# Altium footprint library FPGA_MG.PcbLib: 34 footprints (part 2 of 4)
Each footprint in its own frame and in the unit in brackets; x right, y up, seen from the top. Pads: shape width x height; smd on the part's side, far side on the other; paste and mask are expansions set on the pad; w line width, h text height; cw(c..) or ccw(c..) is an arc to the next point about the centre after c.
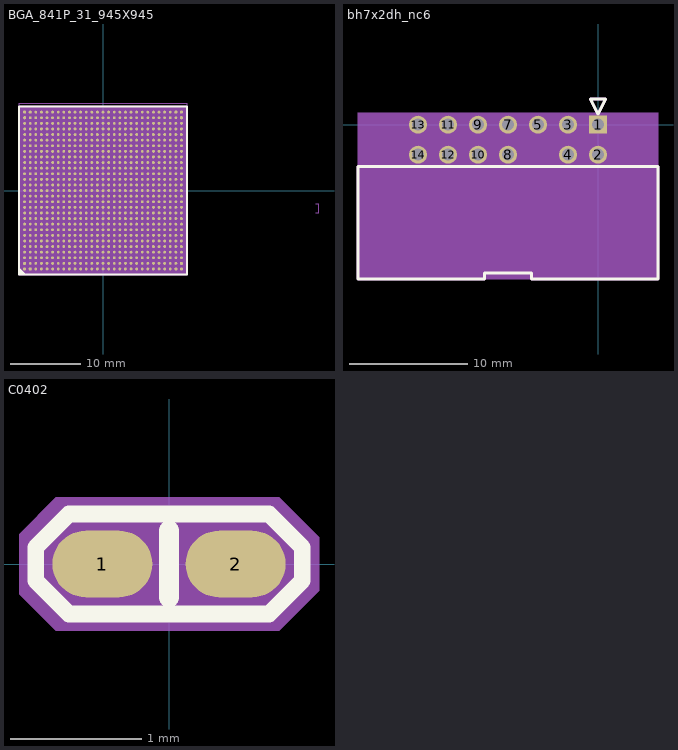
[diagram p1: the footprints below, top view; thin cyan lines are the x and y axes]

## BGA_841P_31_945X945 [mil] "BGA_841P_31_945X945"
pads (841):
  round 18 smd: A1(-440.94,-440.94) A2(-440.94,-409.45) A28(-440.94,409.45) A29(-440.94,440.94) AH1(409.45,-440.94) AH29(409.45,440.94) AJ1(440.94,-440.94) AJ2(440.94,-409.45) AJ28(440.94,409.45) AJ29(440.94,440.94) B1(-409.45,-440.94) B29(-409.45,440.94)
  round 16 smd: A3(-440.94,-377.95) A4(-440.94,-346.46) A5(-440.94,-314.96) A6(-440.94,-283.46) A7(-440.94,-251.97) A8(-440.94,-220.47) A9(-440.94,-188.98) A10(-440.94,-157.48) A11(-440.94,-125.98) A12(-440.94,-94.49) A13(-440.94,-62.99) A14(-440.94,-31.5) A15(-440.94,0) A16(-440.94,31.5) A17(-440.94,62.99) A18(-440.94,94.49) A19(-440.94,125.98) A20(-440.94,157.48) A21(-440.94,188.98) A22(-440.94,220.47) A23(-440.94,251.97) A24(-440.94,283.46) A25(-440.94,314.96) A26(-440.94,346.46) A27(-440.94,377.95) AA1(188.98,-440.94) AA2(188.98,-409.45) AA3(188.98,-377.95) AA4(188.98,-346.46) AA5(188.98,-314.96) AA6(188.98,-283.46) AA7(188.98,-251.97) AA8(188.98,-220.47) AA9(188.98,-188.98) AA10(188.98,-157.48) AA11(188.98,-125.98) AA12(188.98,-94.49) AA13(188.98,-62.99) AA14(188.98,-31.5) AA15(188.98,0) AA16(188.98,31.5) AA17(188.98,62.99) AA18(188.98,94.49) AA19(188.98,125.98) AA20(188.98,157.48) AA21(188.98,188.98) AA22(188.98,220.47) AA23(188.98,251.97) AA24(188.98,283.46) AA25(188.98,314.96) AA26(188.98,346.46) AA27(188.98,377.95) AA28(188.98,409.45) AA29(188.98,440.94) AB1(220.47,-440.94) AB2(220.47,-409.45) AB3(220.47,-377.95) AB4(220.47,-346.46) AB5(220.47,-314.96) AB6(220.47,-283.46) AB7(220.47,-251.97) AB8(220.47,-220.47) AB9(220.47,-188.98) AB10(220.47,-157.48) AB11(220.47,-125.98) AB12(220.47,-94.49) AB13(220.47,-62.99) AB14(220.47,-31.5) AB15(220.47,0) AB16(220.47,31.5) AB17(220.47,62.99) AB18(220.47,94.49) AB19(220.47,125.98) AB20(220.47,157.48) AB21(220.47,188.98) AB22(220.47,220.47) AB23(220.47,251.97) AB24(220.47,283.46) AB25(220.47,314.96) AB26(220.47,346.46) AB27(220.47,377.95) AB28(220.47,409.45) AB29(220.47,440.94) AC1(251.97,-440.94) AC2(251.97,-409.45) AC3(251.97,-377.95) AC4(251.97,-346.46) AC5(251.97,-314.96) AC6(251.97,-283.46) AC7(251.97,-251.97) AC8(251.97,-220.47) AC9(251.97,-188.98) AC10(251.97,-157.48) AC11(251.97,-125.98) AC12(251.97,-94.49) AC13(251.97,-62.99) AC14(251.97,-31.5) AC15(251.97,0) AC16(251.97,31.5) AC17(251.97,62.99) AC18(251.97,94.49) AC19(251.97,125.98) AC20(251.97,157.48) AC21(251.97,188.98) AC22(251.97,220.47) AC23(251.97,251.97) AC24(251.97,283.46) AC25(251.97,314.96) AC26(251.97,346.46) AC27(251.97,377.95) AC28(251.97,409.45) AC29(251.97,440.94) AD1(283.46,-440.94) AD2(283.46,-409.45) AD3(283.46,-377.95) AD4(283.46,-346.46) AD5(283.46,-314.96) AD6(283.46,-283.46) AD7(283.46,-251.97) AD8(283.46,-220.47) AD9(283.46,-188.98) AD10(283.46,-157.48) AD11(283.46,-125.98) AD12(283.46,-94.49) AD13(283.46,-62.99) AD14(283.46,-31.5) AD15(283.46,0) AD16(283.46,31.5) AD17(283.46,62.99) AD18(283.46,94.49) AD19(283.46,125.98) AD20(283.46,157.48) AD21(283.46,188.98) AD22(283.46,220.47) AD23(283.46,251.97) AD24(283.46,283.46) AD25(283.46,314.96) AD26(283.46,346.46) AD27(283.46,377.95) AD28(283.46,409.45) AD29(283.46,440.94) AE1(314.96,-440.94) AE2(314.96,-409.45) AE3(314.96,-377.95) AE4(314.96,-346.46) AE5(314.96,-314.96) AE6(314.96,-283.46) AE7(314.96,-251.97) AE8(314.96,-220.47) AE9(314.96,-188.98) AE10(314.96,-157.48) AE11(314.96,-125.98) AE12(314.96,-94.49) AE13(314.96,-62.99) AE14(314.96,-31.5) AE15(314.96,0) AE16(314.96,31.5) AE17(314.96,62.99) AE18(314.96,94.49) AE19(314.96,125.98) AE20(314.96,157.48) AE21(314.96,188.98) AE22(314.96,220.47) AE23(314.96,251.97) AE24(314.96,283.46) AE25(314.96,314.96) AE26(314.96,346.46) AE27(314.96,377.95) AE28(314.96,409.45) AE29(314.96,440.94) AF1(346.46,-440.94) AF2(346.46,-409.45) AF3(346.46,-377.95) AF4(346.46,-346.46) AF5(346.46,-314.96) AF6(346.46,-283.46) AF7(346.46,-251.97) AF8(346.46,-220.47) AF9(346.46,-188.98) AF10(346.46,-157.48) AF11(346.46,-125.98) AF12(346.46,-94.49) AF13(346.46,-62.99) AF14(346.46,-31.5) AF15(346.46,0) AF16(346.46,31.5) AF17(346.46,62.99) AF18(346.46,94.49) AF19(346.46,125.98) AF20(346.46,157.48) AF21(346.46,188.98) AF22(346.46,220.47) AF23(346.46,251.97) AF24(346.46,283.46) AF25(346.46,314.96) AF26(346.46,346.46) AF27(346.46,377.95) AF28(346.46,409.45) AF29(346.46,440.94) AG1(377.95,-440.94) AG2(377.95,-409.45) AG3(377.95,-377.95) AG4(377.95,-346.46) AG5(377.95,-314.96) AG6(377.95,-283.46) AG7(377.95,-251.97) AG8(377.95,-220.47) AG9(377.95,-188.98) AG10(377.95,-157.48) AG11(377.95,-125.98) AG12(377.95,-94.49) AG13(377.95,-62.99) AG14(377.95,-31.5) AG15(377.95,0) AG16(377.95,31.5) AG17(377.95,62.99) AG18(377.95,94.49) AG19(377.95,125.98) AG20(377.95,157.48) AG21(377.95,188.98) AG22(377.95,220.47) AG23(377.95,251.97) AG24(377.95,283.46) AG25(377.95,314.96) AG26(377.95,346.46) AG27(377.95,377.95) AG28(377.95,409.45) AG29(377.95,440.94) AH2(409.45,-409.45) AH3(409.45,-377.95) AH4(409.45,-346.46) AH5(409.45,-314.96) AH6(409.45,-283.46) AH7(409.45,-251.97) AH8(409.45,-220.47) AH9(409.45,-188.98) AH10(409.45,-157.48) AH11(409.45,-125.98) AH12(409.45,-94.49) AH13(409.45,-62.99) AH14(409.45,-31.5) AH15(409.45,0) AH16(409.45,31.5) AH17(409.45,62.99) AH18(409.45,94.49) AH19(409.45,125.98) AH20(409.45,157.48) AH21(409.45,188.98) AH22(409.45,220.47) AH23(409.45,251.97) AH24(409.45,283.46) AH25(409.45,314.96) AH26(409.45,346.46) AH27(409.45,377.95) AH28(409.45,409.45) AJ3(440.94,-377.95) AJ4(440.94,-346.46) AJ5(440.94,-314.96) AJ6(440.94,-283.46) AJ7(440.94,-251.97) AJ8(440.94,-220.47) AJ9(440.94,-188.98) AJ10(440.94,-157.48) AJ11(440.94,-125.98) AJ12(440.94,-94.49) AJ13(440.94,-62.99) AJ14(440.94,-31.5) AJ15(440.94,0) AJ16(440.94,31.5) AJ17(440.94,62.99) AJ18(440.94,94.49) AJ19(440.94,125.98) AJ20(440.94,157.48) AJ21(440.94,188.98) AJ22(440.94,220.47) AJ23(440.94,251.97) AJ24(440.94,283.46) AJ25(440.94,314.96) AJ26(440.94,346.46) AJ27(440.94,377.95) B2(-409.45,-409.45) B3(-409.45,-377.95) B4(-409.45,-346.46) B5(-409.45,-314.96) B6(-409.45,-283.46) B7(-409.45,-251.97) B8(-409.45,-220.47) B9(-409.45,-188.98) B10(-409.45,-157.48) B11(-409.45,-125.98) B12(-409.45,-94.49) B13(-409.45,-62.99) B14(-409.45,-31.5) B15(-409.45,0) B16(-409.45,31.5) B17(-409.45,62.99) B18(-409.45,94.49) B19(-409.45,125.98) B20(-409.45,157.48) B21(-409.45,188.98) B22(-409.45,220.47) B23(-409.45,251.97) B24(-409.45,283.46) B25(-409.45,314.96) B26(-409.45,346.46) B27(-409.45,377.95) B28(-409.45,409.45) C1(-377.95,-440.94) C2(-377.95,-409.45) C3(-377.95,-377.95) C4(-377.95,-346.46) C5(-377.95,-314.96) C6(-377.95,-283.46) C7(-377.95,-251.97) C8(-377.95,-220.47) C9(-377.95,-188.98) C10(-377.95,-157.48) C11(-377.95,-125.98) C12(-377.95,-94.49) C13(-377.95,-62.99) C14(-377.95,-31.5) C15(-377.95,0) C16(-377.95,31.5) C17(-377.95,62.99) C18(-377.95,94.49) C19(-377.95,125.98) C20(-377.95,157.48) C21(-377.95,188.98) C22(-377.95,220.47) C23(-377.95,251.97) C24(-377.95,283.46) C25(-377.95,314.96) C26(-377.95,346.46) C27(-377.95,377.95) C28(-377.95,409.45) C29(-377.95,440.94) D1(-346.46,-440.94) D2(-346.46,-409.45) D3(-346.46,-377.95) D4(-346.46,-346.46) D5(-346.46,-314.96) D6(-346.46,-283.46) D7(-346.46,-251.97) D8(-346.46,-220.47) D9(-346.46,-188.98) D10(-346.46,-157.48) D11(-346.46,-125.98) D12(-346.46,-94.49) D13(-346.46,-62.99) D14(-346.46,-31.5) D15(-346.46,0) D16(-346.46,31.5) D17(-346.46,62.99) D18(-346.46,94.49) D19(-346.46,125.98) D20(-346.46,157.48) D21(-346.46,188.98) D22(-346.46,220.47) D23(-346.46,251.97) D24(-346.46,283.46) D25(-346.46,314.96) D26(-346.46,346.46) D27(-346.46,377.95) D28(-346.46,409.45) D29(-346.46,440.94) E1(-314.96,-440.94) E2(-314.96,-409.45) E3(-314.96,-377.95) E4(-314.96,-346.46) E5(-314.96,-314.96) E6(-314.96,-283.46) E7(-314.96,-251.97) E8(-314.96,-220.47) E9(-314.96,-188.98) E10(-314.96,-157.48) E11(-314.96,-125.98) E12(-314.96,-94.49) E13(-314.96,-62.99) E14(-314.96,-31.5) E15(-314.96,0) E16(-314.96,31.5) E17(-314.96,62.99) E18(-314.96,94.49) E19(-314.96,125.98) E20(-314.96,157.48) E21(-314.96,188.98) E22(-314.96,220.47) E23(-314.96,251.97) E24(-314.96,283.46) E25(-314.96,314.96) E26(-314.96,346.46) E27(-314.96,377.95) E28(-314.96,409.45) E29(-314.96,440.94) F1(-283.46,-440.94) F2(-283.46,-409.45) F3(-283.46,-377.95) F4(-283.46,-346.46) F5(-283.46,-314.96) F6(-283.46,-283.46) F7(-283.46,-251.97) F8(-283.46,-220.47) F9(-283.46,-188.98) F10(-283.46,-157.48) F11(-283.46,-125.98) F12(-283.46,-94.49) F13(-283.46,-62.99) F14(-283.46,-31.5) F15(-283.46,0) F16(-283.46,31.5) F17(-283.46,62.99) F18(-283.46,94.49) F19(-283.46,125.98) F20(-283.46,157.48) F21(-283.46,188.98) F22(-283.46,220.47) F23(-283.46,251.97) F24(-283.46,283.46) F25(-283.46,314.96) F26(-283.46,346.46) F27(-283.46,377.95) F28(-283.46,409.45) F29(-283.46,440.94) G1(-251.97,-440.94) G2(-251.97,-409.45) G3(-251.97,-377.95) G4(-251.97,-346.46) G5(-251.97,-314.96) G6(-251.97,-283.46) G7(-251.97,-251.97) G8(-251.97,-220.47) G9(-251.97,-188.98) G10(-251.97,-157.48) G11(-251.97,-125.98) G12(-251.97,-94.49) G13(-251.97,-62.99) G14(-251.97,-31.5) G15(-251.97,0) G16(-251.97,31.5) G17(-251.97,62.99) G18(-251.97,94.49) G19(-251.97,125.98) G20(-251.97,157.48) G21(-251.97,188.98) G22(-251.97,220.47) G23(-251.97,251.97) G24(-251.97,283.46) G25(-251.97,314.96) G26(-251.97,346.46) G27(-251.97,377.95) G28(-251.97,409.45) G29(-251.97,440.94) H1(-220.47,-440.94) H2(-220.47,-409.45) H3(-220.47,-377.95) H4(-220.47,-346.46) H5(-220.47,-314.96) H6(-220.47,-283.46) H7(-220.47,-251.97) H8(-220.47,-220.47) H9(-220.47,-188.98) H10(-220.47,-157.48) H11(-220.47,-125.98) H12(-220.47,-94.49) H13(-220.47,-62.99) H14(-220.47,-31.5) H15(-220.47,0) H16(-220.47,31.5) H17(-220.47,62.99) H18(-220.47,94.49) H19(-220.47,125.98) H20(-220.47,157.48) H21(-220.47,188.98) H22(-220.47,220.47) H23(-220.47,251.97) H24(-220.47,283.46) H25(-220.47,314.96) H26(-220.47,346.46) H27(-220.47,377.95) H28(-220.47,409.45) H29(-220.47,440.94) J1(-188.98,-440.94) J2(-188.98,-409.45) J3(-188.98,-377.95) J4(-188.98,-346.46) J5(-188.98,-314.96) J6(-188.98,-283.46) J7(-188.98,-251.97) J8(-188.98,-220.47) J9(-188.98,-188.98) J10(-188.98,-157.48) J11(-188.98,-125.98) J12(-188.98,-94.49) J13(-188.98,-62.99) J14(-188.98,-31.5) J15(-188.98,0) J16(-188.98,31.5) J17(-188.98,62.99) J18(-188.98,94.49) J19(-188.98,125.98) J20(-188.98,157.48) J21(-188.98,188.98) J22(-188.98,220.47) J23(-188.98,251.97) J24(-188.98,283.46) J25(-188.98,314.96) J26(-188.98,346.46) J27(-188.98,377.95) J28(-188.98,409.45) J29(-188.98,440.94) K1(-157.48,-440.94) K2(-157.48,-409.45) K3(-157.48,-377.95) K4(-157.48,-346.46) K5(-157.48,-314.96) K6(-157.48,-283.46) K7(-157.48,-251.97) K8(-157.48,-220.47) K9(-157.48,-188.98) K10(-157.48,-157.48) K11(-157.48,-125.98) K12(-157.48,-94.49) K13(-157.48,-62.99) K14(-157.48,-31.5) K15(-157.48,0) K16(-157.48,31.5) K17(-157.48,62.99) K18(-157.48,94.49) K19(-157.48,125.98) K20(-157.48,157.48) K21(-157.48,188.98) K22(-157.48,220.47) K23(-157.48,251.97) K24(-157.48,283.46) K25(-157.48,314.96) K26(-157.48,346.46) K27(-157.48,377.95) K28(-157.48,409.45) K29(-157.48,440.94) L1(-125.98,-440.94) L2(-125.98,-409.45) L3(-125.98,-377.95) L4(-125.98,-346.46) L5(-125.98,-314.96) L6(-125.98,-283.46) L7(-125.98,-251.97) L8(-125.98,-220.47) L9(-125.98,-188.98) L10(-125.98,-157.48) L11(-125.98,-125.98) L12(-125.98,-94.49) L13(-125.98,-62.99) L14(-125.98,-31.5) L15(-125.98,0) L16(-125.98,31.5) L17(-125.98,62.99) L18(-125.98,94.49) L19(-125.98,125.98) L20(-125.98,157.48) L21(-125.98,188.98) L22(-125.98,220.47) L23(-125.98,251.97) L24(-125.98,283.46) L25(-125.98,314.96) L26(-125.98,346.46) L27(-125.98,377.95) L28(-125.98,409.45) L29(-125.98,440.94) M1(-94.49,-440.94) M2(-94.49,-409.45) M3(-94.49,-377.95) M4(-94.49,-346.46) M5(-94.49,-314.96) M6(-94.49,-283.46) M7(-94.49,-251.97) M8(-94.49,-220.47) M9(-94.49,-188.98) M10(-94.49,-157.48) M11(-94.49,-125.98) M12(-94.49,-94.49) M13(-94.49,-62.99) M14(-94.49,-31.5) M15(-94.49,0) M16(-94.49,31.5) M17(-94.49,62.99) M18(-94.49,94.49) M19(-94.49,125.98) M20(-94.49,157.48) M21(-94.49,188.98) M22(-94.49,220.47) M23(-94.49,251.97) M24(-94.49,283.46) M25(-94.49,314.96) M26(-94.49,346.46) M27(-94.49,377.95) M28(-94.49,409.45) M29(-94.49,440.94) N1(-62.99,-440.94) N2(-62.99,-409.45) N3(-62.99,-377.95) N4(-62.99,-346.46) N5(-62.99,-314.96) N6(-62.99,-283.46) N7(-62.99,-251.97) N8(-62.99,-220.47) N9(-62.99,-188.98) N10(-62.99,-157.48) N11(-62.99,-125.98) N12(-62.99,-94.49) N13(-62.99,-62.99) N14(-62.99,-31.5) N15(-62.99,0) N16(-62.99,31.5) N17(-62.99,62.99) N18(-62.99,94.49) N19(-62.99,125.98) N20(-62.99,157.48) N21(-62.99,188.98) N22(-62.99,220.47) N23(-62.99,251.97) N24(-62.99,283.46) N25(-62.99,314.96) N26(-62.99,346.46) N27(-62.99,377.95) N28(-62.99,409.45) N29(-62.99,440.94) P1(-31.5,-440.94) P2(-31.5,-409.45) P3(-31.5,-377.95) P4(-31.5,-346.46) P5(-31.5,-314.96) P6(-31.5,-283.46) P7(-31.5,-251.97) P8(-31.5,-220.47) P9(-31.5,-188.98) P10(-31.5,-157.48) P11(-31.5,-125.98) P12(-31.5,-94.49) P13(-31.5,-62.99) P14(-31.5,-31.5) P15(-31.5,0) P16(-31.5,31.5) P17(-31.5,62.99) P18(-31.5,94.49) P19(-31.5,125.98) P20(-31.5,157.48) P21(-31.5,188.98) P22(-31.5,220.47) P23(-31.5,251.97) P24(-31.5,283.46) P25(-31.5,314.96) P26(-31.5,346.46) P27(-31.5,377.95) P28(-31.5,409.45) P29(-31.5,440.94) R1(0,-440.94) R2(0,-409.45) R3(0,-377.95) R4(0,-346.46) R5(0,-314.96) R6(0,-283.46) R7(0,-251.97) R8(0,-220.47) R9(0,-188.98) R10(0,-157.48) R11(0,-125.98) R12(0,-94.49) R13(0,-62.99) R14(0,-31.5) R15(0,0) R16(0,31.5) R17(0,62.99) R18(0,94.49) R19(0,125.98) R20(0,157.48) R21(0,188.98) R22(0,220.47) R23(0,251.97) R24(0,283.46) R25(0,314.96) R26(0,346.46) R27(0,377.95) R28(0,409.45) R29(0,440.94) T1(31.5,-440.94) T2(31.5,-409.45) T3(31.5,-377.95) T4(31.5,-346.46) T5(31.5,-314.96) T6(31.5,-283.46) T7(31.5,-251.97) T8(31.5,-220.47) T9(31.5,-188.98) T10(31.5,-157.48) T11(31.5,-125.98) T12(31.5,-94.49) T13(31.5,-62.99) T14(31.5,-31.5) T15(31.5,0) T16(31.5,31.5) T17(31.5,62.99) T18(31.5,94.49) T19(31.5,125.98) T20(31.5,157.48) T21(31.5,188.98) T22(31.5,220.47) T23(31.5,251.97) T24(31.5,283.46) T25(31.5,314.96) T26(31.5,346.46) T27(31.5,377.95) T28(31.5,409.45) T29(31.5,440.94) U1(62.99,-440.94) U2(62.99,-409.45) U3(62.99,-377.95) U4(62.99,-346.46) U5(62.99,-314.96) U6(62.99,-283.46) U7(62.99,-251.97) U8(62.99,-220.47) U9(62.99,-188.98) U10(62.99,-157.48) U11(62.99,-125.98) U12(62.99,-94.49) U13(62.99,-62.99) U14(62.99,-31.5) U15(62.99,0) U16(62.99,31.5) U17(62.99,62.99) U18(62.99,94.49) U19(62.99,125.98) U20(62.99,157.48) U21(62.99,188.98) U22(62.99,220.47) U23(62.99,251.97) U24(62.99,283.46) U25(62.99,314.96) U26(62.99,346.46) U27(62.99,377.95) U28(62.99,409.45) U29(62.99,440.94) V1(94.49,-440.94) V2(94.49,-409.45) V3(94.49,-377.95) V4(94.49,-346.46) V5(94.49,-314.96) V6(94.49,-283.46) V7(94.49,-251.97) V8(94.49,-220.47) V9(94.49,-188.98) V10(94.49,-157.48) V11(94.49,-125.98) V12(94.49,-94.49) V13(94.49,-62.99) V14(94.49,-31.5) V15(94.49,0) V16(94.49,31.5) V17(94.49,62.99) V18(94.49,94.49) V19(94.49,125.98) V20(94.49,157.48) V21(94.49,188.98) V22(94.49,220.47) V23(94.49,251.97) V24(94.49,283.46) V25(94.49,314.96) V26(94.49,346.46) V27(94.49,377.95) V28(94.49,409.45) V29(94.49,440.94) W1(125.98,-440.94) W2(125.98,-409.45) W3(125.98,-377.95) W4(125.98,-346.46) W5(125.98,-314.96) W6(125.98,-283.46) W7(125.98,-251.97) W8(125.98,-220.47) W9(125.98,-188.98) W10(125.98,-157.48) W11(125.98,-125.98) W12(125.98,-94.49) W13(125.98,-62.99) W14(125.98,-31.5) W15(125.98,0) W16(125.98,31.5) W17(125.98,62.99) W18(125.98,94.49) W19(125.98,125.98) W20(125.98,157.48) W21(125.98,188.98) W22(125.98,220.47) W23(125.98,251.97) W24(125.98,283.46) W25(125.98,314.96) W26(125.98,346.46) W27(125.98,377.95) W28(125.98,409.45) W29(125.98,440.94) Y1(157.48,-440.94) Y2(157.48,-409.45) Y3(157.48,-377.95) Y4(157.48,-346.46) Y5(157.48,-314.96) Y6(157.48,-283.46) Y7(157.48,-251.97) Y8(157.48,-220.47) Y9(157.48,-188.98) Y10(157.48,-157.48) Y11(157.48,-125.98) Y12(157.48,-94.49) Y13(157.48,-62.99) Y14(157.48,-31.5) Y15(157.48,0) Y16(157.48,31.5) Y17(157.48,62.99) Y18(157.48,94.49) Y19(157.48,125.98) Y20(157.48,157.48) Y21(157.48,188.98) Y22(157.48,220.47) Y23(157.48,251.97) Y24(157.48,283.46) Y25(157.48,314.96) Y26(157.48,346.46) Y27(157.48,377.95) Y28(157.48,409.45) Y29(157.48,440.94)
Top Overlay:
  pour cut-out: -472.53,-471.48 -437.68,-471.48 -436.64,-472.52 -436.64,-468.34 -469.39,-435.59 -472.18,-438.38 -472.18,-471.13
  lines w10: -472.44,-472.44 472.44,-472.44 472.44,472.44 -472.44,472.44 -472.44,-472.44
  text ".Designator" at -495.12,-27.56 h25
Mechanical 1:
  lines w1: -472.44,-472.44 472.44,-472.44 472.44,490.73 -472.44,490.73 -472.44,-472.44
Mechanical 5:
  lines w10: -472.44,-472.44 -472.44,472.44 472.44,472.44 472.44,-472.44 -472.44,-472.44
Mechanical 13:
  lines w1: 1195.5,-125 1214.5,-125 1214.5,-75 1195.5,-75
Mechanical 14:
  text "AB7" at 220.47,-285.57 h28
  text "AC3" at 251.97,-411.55 h28
  text "AF5" at 346.46,-348.56 h28
  text "AB21" at 220.47,144.18 h28
  text "AB19" at 220.47,81.18 h28
  text "AH1" at 409.45,-474.54 h28
  text "AJ2" at 440.94,-443.05 h28
  text "AA6" at 188.98,-317.06 h28
  text "AB5" at 220.47,-348.56 h28
  text "Y7" at 157.48,-274.37 h28
  text "AJ28" at 440.94,364.65 h28
  text "AG22" at 377.95,175.67 h28
  text "AF26" at 346.46,301.66 h28
  text "AH29" at 409.45,396.14 h28
  text "AB28" at 220.47,364.65 h28
  text "Y23" at 157.48,218.37 h28
  text "V23" at 94.49,218.37 h28
  text "U26" at 62.99,312.86 h28
  text "N28" at -62.99,375.85 h28
  text "H24" at -220.47,249.86 h28
  text "T23" at 31.5,218.37 h28
  text "P23" at -31.5,218.37 h28
  text "M27" at -94.49,344.35 h28
  text "Y4" at 157.48,-368.86 h28
  text "W4" at 125.98,-368.86 h28
  text "AA4" at 188.98,-380.06 h28
  text "AA3" at 188.98,-411.55 h28
  text "T4" at 31.5,-368.86 h28
  text "AA1" at 188.98,-474.54 h28
  text "M5" at -94.49,-337.36 h28
  text "N5" at -62.99,-337.36 h28
  text "Y3" at 157.48,-400.35 h28
  text "U4" at 62.99,-368.86 h28
  text "AA2" at 188.98,-443.05 h28
  text "W3" at 125.98,-400.35 h28
  text "T1" at 31.5,-463.34 h28
  text "P2" at -31.5,-431.85 h28
  text "T2" at 31.5,-431.85 h28
  text "N1" at -62.99,-463.34 h28
  text "R1" at 0,-463.34 h28
  text "M1" at -94.49,-463.34 h28
  text "N2" at -62.99,-431.85 h28
  text "U2" at 62.99,-431.85 h28
  text "N4" at -62.99,-368.86 h28
  text "P4" at -31.5,-368.86 h28
  text "R5" at 0,-337.36 h28
  text "T5" at 31.5,-337.36 h28
  text "AH16" at 409.45,-13.3 h28
  text "AH17" at 409.45,18.19 h28
  text "AF16" at 346.46,-13.3 h28
  text "AF17" at 346.46,18.19 h28
  text "K27" at -157.48,344.35 h28
  text "L29" at -125.98,407.34 h28
  text "L28" at -125.98,375.85 h28
  text "K29" at -157.48,407.34 h28
  text "K26" at -157.48,312.86 h28
  text "K28" at -157.48,375.85 h28
  text "J24" at -188.98,249.86 h28
  text "J27" at -188.98,344.35 h28
  text "J25" at -188.98,281.36 h28
  text "J26" at -188.98,312.86 h28
  text "J29" at -188.98,407.34 h28
  text "J28" at -188.98,375.85 h28
  text "K25" at -157.48,281.36 h28
  text "K24" at -157.48,249.86 h28
  text "R28" at 0,375.85 h28
  text "G26" at -251.97,312.86 h28
  text "H26" at -220.47,312.86 h28
  text "AC20" at 251.97,112.68 h28
  text "M29" at -94.49,407.34 h28
  text "N25" at -62.99,281.36 h28
  text "G4" at -251.97,-368.86 h28
  text "A2" at -440.94,-431.85 h28
  text "B1" at -409.45,-463.34 h28
  text "E3" at -314.96,-400.35 h28
  text "G2" at -251.97,-431.85 h28
  text "D5" at -346.46,-337.36 h28
  text "D8" at -346.46,-242.87 h28
  text "F5" at -283.46,-337.36 h28
  text "F7" at -283.46,-274.37 h28
  text "G8" at -251.97,-242.87 h28
  text "G14" at -251.97,-65.1 h28
  text "G10" at -251.97,-191.08 h28
  text "F9" at -283.46,-211.38 h28
  text "F11" at -283.46,-159.58 h28
  text "G12" at -251.97,-128.09 h28
  text "C14" at -377.95,-65.1 h28
  text "G20" at -251.97,123.88 h28
  text "F19" at -283.46,92.38 h28
  text "G18" at -251.97,60.89 h28
  text "F17" at -283.46,29.39 h28
  text "G16" at -251.97,-2.1 h28
  text "C25" at -377.95,281.36 h28
  text "F26" at -283.46,312.86 h28
  text "G23" at -251.97,218.37 h28
  text "D20" at -346.46,123.88 h28
  text "F28" at -283.46,375.85 h28
  text "D23" at -346.46,218.37 h28
  text "A11" at -440.94,-159.58 h28
  text "A17" at -440.94,29.39 h28
  text "A28" at -440.94,375.85 h28
  text "B29" at -409.45,407.34 h28
  text "AF8" at 346.46,-254.07 h28
  text "AF7" at 346.46,-285.57 h28
  text "N27" at -62.99,344.35 h28
  text "AE2" at 314.96,-443.05 h28
  text "AJ18" at 440.94,49.69 h28
  text "AJ17" at 440.94,18.19 h28
  text "R24" at 0,249.86 h28
  text "R27" at 0,344.35 h28
  text "R23" at 0,218.37 h28
  text "P26" at -31.5,312.86 h28
  text "AD1" at 283.46,-474.54 h28
  text "AE3" at 314.96,-411.55 h28
  text "AG5" at 377.95,-348.56 h28
  text "AH5" at 409.45,-348.56 h28
  text "AA14" at 188.98,-76.3 h28
  text "Y15" at 157.48,-33.6 h28
  text "AA16" at 188.98,-13.3 h28
  text "T11" at 31.5,-159.58 h28
  text "R10" at 0,-191.08 h28
  text "N8" at -62.99,-242.87 h28
  text "P9" at -31.5,-211.38 h28
  text "U10" at 62.99,-191.08 h28
  text "W8" at 125.98,-242.87 h28
  text "V9" at 94.49,-211.38 h28
  text "H21" at -220.47,155.38 h28
  text "K13" at -157.48,-96.59 h28
  text "H11" at -220.47,-159.58 h28
  text "J12" at -188.98,-128.09 h28
  text "L14" at -125.98,-65.1 h28
  text "M15" at -94.49,-33.6 h28
  text "M17" at -94.49,29.39 h28
  text "K19" at -157.48,92.38 h28
  text "J20" at -188.98,123.88 h28
  text "L18" at -125.98,60.89 h28
  text "N16" at -62.99,-2.1 h28
  text "U22" at 62.99,186.87 h28
  text "T21" at 31.5,155.38 h28
  text "R22" at 0,186.87 h28
  text "P21" at -31.5,155.38 h28
  text "R20" at 0,123.88 h28
  text "N22" at -62.99,186.87 h28
  text "T19" at 31.5,92.38 h28
  text "W22" at 125.98,186.87 h28
  text "V21" at 94.49,155.38 h28
  text "U20" at 62.99,123.88 h28
  text "T17" at 31.5,29.39 h28
  text "R18" at 0,60.89 h28
  text "U18" at 62.99,60.89 h28
  text "AA22" at 188.98,175.67 h28
  text "Y21" at 157.48,155.38 h28
  text "W20" at 125.98,123.88 h28
  text "V19" at 94.49,92.38 h28
  text "P19" at -31.5,92.38 h28
  text "M21" at -94.49,155.38 h28
  text "L22" at -125.98,186.87 h28
  text "N20" at -62.99,123.88 h28
  text "T15" at 31.5,-33.6 h28
  text "U16" at 62.99,-2.1 h28
  text "Y19" at 157.48,92.38 h28
  text "W18" at 125.98,60.89 h28
  text "V17" at 94.49,29.39 h28
  text "R14" at 0,-65.1 h28
  text "P13" at -31.5,-96.59 h28
  text "K21" at -157.48,155.38 h28
  text "M19" at -94.49,92.38 h28
  text "L20" at -125.98,123.88 h28
  text "N18" at -62.99,60.89 h28
  text "P17" at -31.5,29.39 h28
  text "R16" at 0,-2.1 h28
  text "P15" at -31.5,-33.6 h28
  text "N14" at -62.99,-65.1 h28
  text "Y9" at 157.48,-211.38 h28
  text "AA8" at 188.98,-254.07 h28
  text "V11" at 94.49,-159.58 h28
  text "W10" at 125.98,-191.08 h28
  text "U12" at 62.99,-128.09 h28
  text "T13" at 31.5,-96.59 h28
  text "P11" at -31.5,-159.58 h28
  text "R12" at 0,-128.09 h28
  text "N10" at -62.99,-191.08 h28
  text "K11" at -157.48,-159.58 h28
  text "L12" at -125.98,-128.09 h28
  text "J10" at -188.98,-191.08 h28
  text "H9" at -220.47,-211.38 h28
  text "H7" at -220.47,-274.37 h28
  text "L10" at -125.98,-191.08 h28
  text "M11" at -94.49,-159.58 h28
  text "K9" at -157.48,-211.38 h28
  text "L8" at -125.98,-242.87 h28
  text "M9" at -94.49,-211.38 h28
  text "K7" at -157.48,-274.37 h28
  text "J8" at -188.98,-242.87 h28
  text "M13" at -94.49,-96.59 h28
  text "N12" at -62.99,-128.09 h28
  text "U14" at 62.99,-65.1 h28
  text "V13" at 94.49,-96.59 h28
  text "W12" at 125.98,-128.09 h28
  text "AA10" at 188.98,-202.28 h28
  text "Y11" at 157.48,-159.58 h28
  text "Y17" at 157.48,29.39 h28
  text "AA18" at 188.98,49.69 h28
  text "V15" at 94.49,-33.6 h28
  text "W16" at 125.98,-2.1 h28
  text "W14" at 125.98,-65.1 h28
  text "AA12" at 188.98,-139.29 h28
  text "Y13" at 157.48,-96.59 h28
  text "H19" at -220.47,92.38 h28
  text "J18" at -188.98,60.89 h28
  text "K17" at -157.48,29.39 h28
  text "K15" at -157.48,-33.6 h28
  text "L16" at -125.98,-2.1 h28
  text "H13" at -220.47,-96.59 h28
  text "J14" at -188.98,-65.1 h28
  text "H17" at -220.47,29.39 h28
  text "H15" at -220.47,-33.6 h28
  text "J16" at -188.98,-2.1 h28
  text "U8" at 62.99,-242.87 h28
  text "R8" at 0,-242.87 h28
  text "T9" at 31.5,-211.38 h28
  text "AH7" at 409.45,-285.57 h28
  text "AH8" at 409.45,-254.07 h28
  text "T28" at 31.5,375.85 h28
  text "AG8" at 377.95,-254.07 h28
  text "AG9" at 377.95,-222.58 h28
  text "W1" at 125.98,-463.34 h28
  text "Y1" at 157.48,-463.34 h28
  text "AJ8" at 440.94,-254.07 h28
  text "AJ9" at 440.94,-222.58 h28
  text "L25" at -125.98,281.36 h28
  text "AD2" at 283.46,-443.05 h28
  text "N26" at -62.99,312.86 h28
  text "AD20" at 283.46,112.68 h28
  text "A20" at -440.94,123.88 h28
  text "H23" at -220.47,218.37 h28
  text "K23" at -157.48,218.37 h28
  text "L23" at -125.98,218.37 h28
  text "J23" at -188.98,218.37 h28
  text "AB2" at 220.47,-443.05 h28
  text "AB3" at 220.47,-411.55 h28
  text "A19" at -440.94,92.38 h28
  text "B19" at -409.45,92.38 h28
  text "AJ4" at 440.94,-380.06 h28
  text "AJ5" at 440.94,-348.56 h28
  text "AC1" at 251.97,-474.54 h28
  text "N29" at -62.99,407.34 h28
  text "P28" at -31.5,375.85 h28
  text "AG18" at 377.95,49.69 h28
  text "AG17" at 377.95,18.19 h28
  text "H27" at -220.47,344.35 h28
  text "G27" at -251.97,344.35 h28
  text "H25" at -220.47,281.36 h28
  text "L27" at -125.98,344.35 h28
  text "H22" at -220.47,186.87 h28
  text "AC6" at 251.97,-317.06 h28
  text "AD5" at 283.46,-348.56 h28
  text "U23" at 62.99,218.37 h28
  text "Y28" at 157.48,375.85 h28
  text "Y29" at 157.48,407.34 h28
  text "W23" at 125.98,218.37 h28
  text "W24" at 125.98,249.86 h28
  text "W25" at 125.98,281.36 h28
  text "W26" at 125.98,312.86 h28
  text "W29" at 125.98,407.34 h28
  text "P29" at -31.5,407.34 h28
  text "M23" at -94.49,218.37 h28
  text "M24" at -94.49,249.86 h28
  text "AH2" at 409.45,-443.05 h28
  text "AJ3" at 440.94,-411.55 h28
  text "H28" at -220.47,375.85 h28
  text "G28" at -251.97,375.85 h28
  text "W6" at 125.98,-305.86 h28
  text "AE12" at 314.96,-139.29 h28
  text "AC9" at 251.97,-222.58 h28
  text "AD19" at 283.46,81.18 h28
  text "AF3" at 346.46,-411.55 h28
  text "G25" at -251.97,281.36 h28
  text "AF1" at 346.46,-474.54 h28
  text "AH4" at 409.45,-380.06 h28
  text "AH3" at 409.45,-411.55 h28
  text "AC27" at 251.97,333.15 h28
  text "AC26" at 251.97,301.66 h28
  text "AD29" at 283.46,396.14 h28
  text "AD28" at 283.46,364.65 h28
  text "AD27" at 283.46,333.15 h28
  text "AE29" at 314.96,396.14 h28
  text "AE28" at 314.96,364.65 h28
  text "AF29" at 346.46,396.14 h28
  text "AE27" at 314.96,333.15 h28
  text "AF28" at 346.46,364.65 h28
  text "AG29" at 377.95,396.14 h28
  text "AD26" at 283.46,301.66 h28
  text "AG28" at 377.95,364.65 h28
  text "AG27" at 377.95,333.15 h28
  text "AJ27" at 440.94,333.15 h28
  text "AF27" at 346.46,333.15 h28
  text "AH27" at 409.45,333.15 h28
  text "N24" at -62.99,249.86 h28
  text "N23" at -62.99,218.37 h28
  text "AF19" at 346.46,81.18 h28
  text "E19" at -314.96,92.38 h28
  text "C20" at -377.95,123.88 h28
  text "D19" at -346.46,92.38 h28
  text "B20" at -409.45,123.88 h28
  text "C19" at -377.95,92.38 h28
  text "C18" at -377.95,60.89 h28
  text "B18" at -409.45,60.89 h28
  text "A18" at -440.94,60.89 h28
  text "C12" at -377.95,-128.09 h28
  text "E18" at -314.96,60.89 h28
  text "B16" at -409.45,-2.1 h28
  text "A16" at -440.94,-2.1 h28
  text "E13" at -314.96,-96.59 h28
  text "L26" at -125.98,312.86 h28
  text "M26" at -94.49,312.86 h28
  text "R25" at 0,281.36 h28
  text "K22" at -157.48,186.87 h28
  text "J22" at -188.98,186.87 h28
  text "Y5" at 157.48,-337.36 h28
  text "W5" at 125.98,-337.36 h28
  text "AF25" at 346.46,270.16 h28
  text "AJ23" at 440.94,207.17 h28
  text "AG25" at 377.95,270.16 h28
  text "AH23" at 409.45,207.17 h28
  text "AJ26" at 440.94,301.66 h28
  text "AG23" at 377.95,207.17 h28
  text "AG26" at 377.95,301.66 h28
  text "AJ22" at 440.94,175.67 h28
  text "AH26" at 409.45,301.66 h28
  text "AJ25" at 440.94,270.16 h28
  text "AD23" at 283.46,207.17 h28
  text "AD24" at 283.46,238.66 h28
  text "AC23" at 251.97,207.17 h28
  text "AH25" at 409.45,270.16 h28
  text "AC24" at 251.97,238.66 h28
  text "AE25" at 314.96,270.16 h28
  text "AE22" at 314.96,175.67 h28
  text "AD21" at 283.46,144.18 h28
  text "AC21" at 251.97,144.18 h28
  text "AJ21" at 440.94,144.18 h28
  text "AH22" at 409.45,175.67 h28
  text "AJ20" at 440.94,112.68 h28
  text "AH21" at 409.45,144.18 h28
  text "AG21" at 377.95,144.18 h28
  text "AE24" at 314.96,238.66 h28
  text "AD25" at 283.46,270.16 h28
  text "AJ24" at 440.94,238.66 h28
  text "AG24" at 377.95,238.66 h28
  text "AH24" at 409.45,238.66 h28
  text "AF24" at 346.46,238.66 h28
  text "AE23" at 314.96,207.17 h28
  text "AF23" at 346.46,207.17 h28
  text "AF21" at 346.46,144.18 h28
  text "AD22" at 283.46,175.67 h28
  text "AC22" at 251.97,175.67 h28
  text "AE21" at 314.96,144.18 h28
  text "AG20" at 377.95,112.68 h28
  text "AE20" at 314.96,112.68 h28
  text "AH20" at 409.45,112.68 h28
  text "AF20" at 346.46,112.68 h28
  text "AG2" at 377.95,-443.05 h28
  text "AE1" at 314.96,-474.54 h28
  text "AG1" at 377.95,-474.54 h28
  text "AB1" at 220.47,-474.54 h28
  text "AB29" at 220.47,396.14 h28
  text "AA29" at 188.98,396.14 h28
  text "Y26" at 157.48,312.86 h28
  text "AA25" at 188.98,270.16 h28
  text "AA27" at 188.98,333.15 h28
  text "V26" at 94.49,312.86 h28
  text "AA26" at 188.98,301.66 h28
  text "V25" at 94.49,281.36 h28
  text "AB27" at 220.47,333.15 h28
  text "Y27" at 157.48,344.35 h28
  text "T25" at 31.5,281.36 h28
  text "V27" at 94.49,344.35 h28
  text "P25" at -31.5,281.36 h28
  text "U24" at 62.99,249.86 h28
  text "T27" at 31.5,344.35 h28
  text "W27" at 125.98,344.35 h28
  text "U28" at 62.99,375.85 h28
  text "V28" at 94.49,375.85 h28
  text "U27" at 62.99,344.35 h28
  text "W28" at 125.98,375.85 h28
  text "U25" at 62.99,281.36 h28
  text "U29" at 62.99,407.34 h28
  text "V29" at 94.49,407.34 h28
  text "T24" at 31.5,249.86 h28
  text "V24" at 94.49,249.86 h28
  text "R26" at 0,312.86 h28
  text "P24" at -31.5,249.86 h28
  text "AA24" at 188.98,238.66 h28
  text "AC25" at 251.97,270.16 h28
  text "AB26" at 220.47,301.66 h28
  text "T29" at 31.5,407.34 h28
  text "Y24" at 157.48,249.86 h28
  text "AB23" at 220.47,207.17 h28
  text "Y25" at 157.48,281.36 h28
  text "AB25" at 220.47,270.16 h28
  text "AB24" at 220.47,238.66 h28
  text "AC4" at 251.97,-380.06 h28
  text "AD3" at 283.46,-411.55 h28
  text "AG15" at 377.95,-44.8 h28
  text "AG14" at 377.95,-76.3 h28
  text "AG11" at 377.95,-170.78 h28
  text "AF10" at 346.46,-202.28 h28
  text "AF14" at 346.46,-76.3 h28
  text "AG12" at 377.95,-139.29 h28
  text "AF13" at 346.46,-107.79 h28
  text "AF11" at 346.46,-170.78 h28
  text "AC28" at 251.97,364.65 h28
  text "AC29" at 251.97,396.14 h28
  text "E14" at -314.96,-65.1 h28
  text "A10" at -440.94,-191.08 h28
  text "C29" at -377.95,407.34 h28
  text "C27" at -377.95,344.35 h28
  text "AD4" at 283.46,-380.06 h28
  text "B2" at -409.45,-431.85 h28
  text "AE4" at 314.96,-380.06 h28
  text "B27" at -409.45,344.35 h28
  text "B9" at -409.45,-211.38 h28
  text "B5" at -409.45,-337.36 h28
  text "M25" at -94.49,281.36 h28
  text "A22" at -440.94,186.87 h28
  text "AE5" at 314.96,-348.56 h28
  text "A25" at -440.94,281.36 h28
  text "AE6" at 314.96,-317.06 h28
  text "A27" at -440.94,344.35 h28
  text "AF2" at 346.46,-443.05 h28
  text "AH19" at 409.45,81.18 h28
  text "AH28" at 409.45,364.65 h28
  text "C28" at -377.95,375.85 h28
  text "A24" at -440.94,249.86 h28
  text "B21" at -409.45,155.38 h28
  text "A9" at -440.94,-211.38 h28
  text "A13" at -440.94,-96.59 h28
  text "D11" at -346.46,-159.58 h28
  text "D12" at -346.46,-128.09 h28
  text "A12" at -440.94,-128.09 h28
  text "B12" at -409.45,-128.09 h28
  text "C10" at -377.95,-191.08 h28
  text "E12" at -314.96,-128.09 h28
  text "C13" at -377.95,-96.59 h28
  text "C11" at -377.95,-159.58 h28
  text "B13" at -409.45,-96.59 h28
  text "D1" at -346.46,-463.34 h28
  text "B6" at -409.45,-305.86 h28
  text "A3" at -440.94,-400.35 h28
  text "A8" at -440.94,-242.87 h28
  text "E29" at -314.96,407.34 h28
  text "L24" at -125.98,249.86 h28
  text "A21" at -440.94,155.38 h28
  text "AH10" at 409.45,-202.28 h28
  text "AH11" at 409.45,-170.78 h28
  text "AJ12" at 440.94,-139.29 h28
  text "R29" at 0,407.34 h28
  text "AA21" at 188.98,144.18 h28
  text "AA20" at 188.98,112.68 h28
  text "AH13" at 409.45,-107.79 h28
  text "AJ15" at 440.94,-44.8 h28
  text "AH14" at 409.45,-76.3 h28
  text "D13" at -346.46,-96.59 h28
  text "D17" at -346.46,29.39 h28
  text "F22" at -283.46,186.87 h28
  text "D15" at -346.46,-33.6 h28
  text "B7" at -409.45,-274.37 h28
  text "D16" at -346.46,-2.1 h28
  text "E16" at -314.96,-2.1 h28
  text "AJ14" at 440.94,-76.3 h28
  text "E4" at -314.96,-368.86 h28
  text "D27" at -346.46,344.35 h28
  text "AJ11" at 440.94,-170.78 h28
  text "B26" at -409.45,312.86 h28
  text "B23" at -409.45,218.37 h28
  text "E27" at -314.96,344.35 h28
  text "E24" at -314.96,249.86 h28
  text "F2" at -283.46,-431.85 h28
  text "D7" at -346.46,-274.37 h28
  text "D26" at -346.46,312.86 h28
  text "E11" at -314.96,-159.58 h28
  text "F14" at -283.46,-65.1 h28
  text "F1" at -283.46,-463.34 h28
  text "E28" at -314.96,375.85 h28
  text "F24" at -283.46,249.86 h28
  text "B28" at -409.45,375.85 h28
  text "A5" at -440.94,-337.36 h28
  text "C24" at -377.95,249.86 h28
  text "D24" at -346.46,249.86 h28
  text "D29" at -346.46,407.34 h28
  text "E21" at -314.96,155.38 h28
  text "F23" at -283.46,218.37 h28
  text "A14" at -440.94,-65.1 h28
  text "B15" at -409.45,-33.6 h28
  text "B8" at -409.45,-242.87 h28
  text "D4" at -346.46,-368.86 h28
  text "F4" at -283.46,-368.86 h28
  text "B10" at -409.45,-191.08 h28
  text "C7" at -377.95,-274.37 h28
  text "A4" at -440.94,-368.86 h28
  text "A23" at -440.94,218.37 h28
  text "F13" at -283.46,-96.59 h28
  text "D10" at -346.46,-191.08 h28
  text "C2" at -377.95,-431.85 h28
  text "C16" at -377.95,-2.1 h28
  text "C6" at -377.95,-305.86 h28
  text "B14" at -409.45,-65.1 h28
  text "F15" at -283.46,-33.6 h28
  text "E1" at -314.96,-463.34 h28
  text "Y2" at 157.48,-431.85 h28
  text "A7" at -440.94,-274.37 h28
  text "W2" at 125.98,-431.85 h28
  text "D2" at -346.46,-431.85 h28
  text "C17" at -377.95,29.39 h28
  text "F20" at -283.46,123.88 h28
  text "AJ6" at 440.94,-317.06 h28
  text "A26" at -440.94,312.86 h28
  text "AG6" at 377.95,-317.06 h28
  text "D6" at -346.46,-305.86 h28
  text "B22" at -409.45,186.87 h28
  text "D21" at -346.46,155.38 h28
  text "H29" at -220.47,407.34 h28
  text "F25" at -283.46,281.36 h28
  text "P27" at -31.5,344.35 h28
  text "G29" at -251.97,407.34 h28
  text "C26" at -377.95,312.86 h28
  text "AG3" at 377.95,-411.55 h28
  text "E25" at -314.96,281.36 h28
  text "AG4" at 377.95,-380.06 h28
  text "C3" at -377.95,-400.35 h28
  text "E7" at -314.96,-274.37 h28
  text "D25" at -346.46,281.36 h28
  text "E23" at -314.96,218.37 h28
  text "E9" at -314.96,-211.38 h28
  text "E17" at -314.96,29.39 h28
  text "E15" at -314.96,-33.6 h28
  text "C4" at -377.95,-368.86 h28
  text "E2" at -314.96,-431.85 h28
  text "E8" at -314.96,-242.87 h28
  text "D28" at -346.46,375.85 h28
  text "D9" at -346.46,-211.38 h28
  text "F3" at -283.46,-400.35 h28
  text "C9" at -377.95,-211.38 h28
  text "C5" at -377.95,-337.36 h28
  text "E6" at -314.96,-305.86 h28
  text "C21" at -377.95,155.38 h28
  text "AE14" at 314.96,-76.3 h28
  text "D22" at -346.46,186.87 h28
  text "AE16" at 314.96,-13.3 h28
  text "C15" at -377.95,-33.6 h28
  text "AE10" at 314.96,-202.28 h28
  text "E26" at -314.96,312.86 h28
  text "AD11" at 283.46,-170.78 h28
  text "AC12" at 251.97,-139.29 h28
  text "AB13" at 220.47,-107.79 h28
  text "AB11" at 220.47,-170.78 h28
  text "AC10" at 251.97,-202.28 h28
  text "AD9" at 283.46,-222.58 h28
  text "AC14" at 251.97,-76.3 h28
  text "AB15" at 220.47,-44.8 h28
  text "AD13" at 283.46,-107.79 h28
  text "AD15" at 283.46,-44.8 h28
  text "AD17" at 283.46,18.19 h28
  text "AE18" at 314.96,49.69 h28
  text "AC16" at 251.97,-13.3 h28
  text "AD7" at 283.46,-285.57 h28
  text "AB9" at 220.47,-222.58 h28
  text "AC8" at 251.97,-254.07 h28
  text "AB17" at 220.47,18.19 h28
  text "AC18" at 251.97,49.69 h28
  text "B4" at -409.45,-368.86 h28
  text "V5" at 94.49,-337.36 h28
  text "E22" at -314.96,186.87 h28
  text "V7" at 94.49,-274.37 h28
  text "U6" at 62.99,-305.86 h28
  text "T7" at 31.5,-274.37 h28
  text "R6" at 0,-305.86 h28
  text "M7" at -94.49,-274.37 h28
  text "N6" at -62.99,-305.86 h28
  text "P7" at -31.5,-274.37 h28
  text "E10" at -314.96,-191.08 h28
  text "F21" at -283.46,155.38 h28
  text "A15" at -440.94,-33.6 h28
  text "C22" at -377.95,186.87 h28
  text "A6" at -440.94,-305.86 h28
  text "G22" at -251.97,186.87 h28
  text "B3" at -409.45,-400.35 h28
  text "B24" at -409.45,249.86 h28
  text "C1" at -377.95,-463.34 h28
  text "AJ7" at 440.94,-285.57 h28
  text "AJ1" at 440.94,-474.54 h28
  text "AJ13" at 440.94,-107.79 h28
  text "AJ16" at 440.94,-13.3 h28
  text "AJ10" at 440.94,-202.28 h28
  text "AJ19" at 440.94,81.18 h28
  text "AJ29" at 440.94,396.14 h28
  text "T3" at 31.5,-400.35 h28
  text "R2" at 0,-431.85 h28
  text "R4" at 0,-368.86 h28
  text "N3" at -62.99,-400.35 h28
  text "P3" at -31.5,-400.35 h28
  text "R3" at 0,-400.35 h28
  text "P5" at -31.5,-337.36 h28
  text "R13" at 0,-96.59 h28
  text "T14" at 31.5,-65.1 h28
  text "U13" at 62.99,-96.59 h28
  text "V16" at 94.49,-2.1 h28
  text "W17" at 125.98,29.39 h28
  text "Y18" at 157.48,60.89 h28
  text "AA19" at 188.98,81.18 h28
  text "AB20" at 220.47,112.68 h28
  text "U15" at 62.99,-33.6 h28
  text "T10" at 31.5,-191.08 h28
  text "T12" at 31.5,-128.09 h28
  text "U11" at 62.99,-159.58 h28
  text "T8" at 31.5,-242.87 h28
  text "R9" at 0,-211.38 h28
  text "H1" at -220.47,-463.34 h28
  text "J1" at -188.98,-463.34 h28
  text "K1" at -157.48,-463.34 h28
  text "H2" at -220.47,-431.85 h28
  text "H3" at -220.47,-400.35 h28
  text "J4" at -188.98,-368.86 h28
  text "H4" at -220.47,-368.86 h28
  text "J3" at -188.98,-400.35 h28
  text "J2" at -188.98,-431.85 h28
  text "M2" at -94.49,-431.85 h28
  text "P8" at -31.5,-242.87 h28
  text "M3" at -94.49,-400.35 h28
  text "L2" at -125.98,-431.85 h28
  text "K2" at -157.48,-431.85 h28
  text "L3" at -125.98,-400.35 h28
  text "K3" at -157.48,-400.35 h28
  text "M4" at -94.49,-368.86 h28
  text "L4" at -125.98,-368.86 h28
  text "N7" at -62.99,-274.37 h28
  text "L5" at -125.98,-337.36 h28
  text "M6" at -94.49,-305.86 h28
  text "K4" at -157.48,-368.86 h28
  text "M10" at -94.49,-191.08 h28
  text "G5" at -251.97,-337.36 h28
  text "H5" at -220.47,-337.36 h28
  text "H6" at -220.47,-305.86 h28
  text "G6" at -251.97,-305.86 h28
  text "J6" at -188.98,-305.86 h28
  text "J5" at -188.98,-337.36 h28
  text "M8" at -94.49,-242.87 h28
  text "L6" at -125.98,-305.86 h28
  text "K5" at -157.48,-337.36 h28
  text "L7" at -125.98,-274.37 h28
  text "K6" at -157.48,-305.86 h28
  text "J7" at -188.98,-274.37 h28
  text "K8" at -157.48,-242.87 h28
  text "L9" at -125.98,-211.38 h28
  text "P10" at -31.5,-191.08 h28
  text "N9" at -62.99,-211.38 h28
  text "G3" at -251.97,-400.35 h28
  text "G1" at -251.97,-463.34 h28
  text "P6" at -31.5,-305.86 h28
  text "R7" at 0,-274.37 h28
  text "L1" at -125.98,-463.34 h28
  text "R11" at 0,-159.58 h28
  text "P12" at -31.5,-128.09 h28
  text "N11" at -62.99,-159.58 h28
  text "U7" at 62.99,-274.37 h28
  text "V14" at 94.49,-65.1 h28
  text "W13" at 125.98,-96.59 h28
  text "Y16" at 157.48,-2.1 h28
  text "AA17" at 188.98,18.19 h28
  text "AB18" at 220.47,49.69 h28
  text "AC19" at 251.97,81.18 h28
  text "W15" at 125.98,-33.6 h28
  text "AB16" at 220.47,-13.3 h28
  text "AC17" at 251.97,18.19 h28
  text "AD18" at 283.46,49.69 h28
  text "AE19" at 314.96,81.18 h28
  text "AD14" at 283.46,-76.3 h28
  text "AC15" at 251.97,-44.8 h28
  text "AB14" at 220.47,-76.3 h28
  text "AA15" at 188.98,-44.8 h28
  text "AF12" at 346.46,-139.29 h28
  text "AE13" at 314.96,-107.79 h28
  text "AC13" at 251.97,-107.79 h28
  text "AD12" at 283.46,-139.29 h28
  text "AE11" at 314.96,-170.78 h28
  text "Y14" at 157.48,-65.1 h28
  text "AA13" at 188.98,-107.79 h28
  text "V10" at 94.49,-191.08 h28
  text "V12" at 94.49,-128.09 h28
  text "W11" at 125.98,-159.58 h28
  text "V8" at 94.49,-242.87 h28
  text "W9" at 125.98,-211.38 h28
  text "Y6" at 157.48,-305.86 h28
  text "AA5" at 188.98,-348.56 h28
  text "W7" at 125.98,-274.37 h28
  text "AC5" at 251.97,-348.56 h28
  text "AB8" at 220.47,-254.07 h28
  text "Y10" at 157.48,-191.08 h28
  text "AA9" at 188.98,-222.58 h28
  text "AB6" at 220.47,-317.06 h28
  text "Y8" at 157.48,-242.87 h28
  text "AA7" at 188.98,-285.57 h28
  text "AD10" at 283.46,-202.28 h28
  text "AB12" at 220.47,-139.29 h28
  text "AC11" at 251.97,-170.78 h28
  text "Y12" at 157.48,-128.09 h28
  text "AA11" at 188.98,-170.78 h28
  text "AB10" at 220.47,-202.28 h28
  text "AE8" at 314.96,-254.07 h28
  text "AE9" at 314.96,-222.58 h28
  text "AC7" at 251.97,-285.57 h28
  text "AB4" at 220.47,-380.06 h28
  text "U9" at 62.99,-211.38 h28
  text "T6" at 31.5,-305.86 h28
  text "U5" at 62.99,-337.36 h28
  text "V6" at 94.49,-305.86 h28
  text "V4" at 94.49,-368.86 h28
  text "U3" at 62.99,-400.35 h28
  text "V3" at 94.49,-400.35 h28
  text "V2" at 94.49,-431.85 h28
  text "V1" at 94.49,-463.34 h28
  text "P1" at -31.5,-463.34 h28
  text "AC2" at 251.97,-443.05 h28
  text "AF4" at 346.46,-380.06 h28
  text "AF6" at 346.46,-317.06 h28
  text "AD6" at 283.46,-317.06 h28
  text "AH6" at 409.45,-317.06 h28
  text "AG7" at 377.95,-285.57 h28
  text "AE7" at 314.96,-285.57 h28
  text "AD8" at 283.46,-254.07 h28
  text "AH15" at 409.45,-44.8 h28
  text "AF15" at 346.46,-44.8 h28
  text "AG16" at 377.95,-13.3 h28
  text "AE15" at 314.96,-44.8 h28
  text "AD16" at 283.46,-13.3 h28
  text "AE17" at 314.96,18.19 h28
  text "AH18" at 409.45,49.69 h28
  text "AF9" at 346.46,-222.58 h28
  text "AF18" at 346.46,49.69 h28
  text "AG19" at 377.95,81.18 h28
  text "AG13" at 377.95,-107.79 h28
  text "AH12" at 409.45,-139.29 h28
  text "P14" at -31.5,-65.1 h28
  text "R15" at 0,-33.6 h28
  text "T16" at 31.5,-2.1 h28
  text "U17" at 62.99,29.39 h28
  text "V18" at 94.49,60.89 h28
  text "W19" at 125.98,92.38 h28
  text "Y20" at 157.48,123.88 h28
  text "R17" at 0,29.39 h28
  text "P18" at -31.5,60.89 h28
  text "N19" at -62.99,92.38 h28
  text "L21" at -125.98,155.38 h28
  text "M20" at -94.49,123.88 h28
  text "H8" at -220.47,-242.87 h28
  text "M12" at -94.49,-128.09 h28
  text "J9" at -188.98,-211.38 h28
  text "L11" at -125.98,-159.58 h28
  text "K10" at -157.48,-191.08 h28
  text "G7" at -251.97,-274.37 h28
  text "F6" at -283.46,-305.86 h28
  text "E5" at -314.96,-337.36 h28
  text "N13" at -62.99,-96.59 h28
  text "AG10" at 377.95,-202.28 h28
  text "AH9" at 409.45,-222.58 h28
  text "AA23" at 188.98,207.17 h28
  text "AA28" at 188.98,364.65 h28
  text "AF22" at 346.46,175.67 h28
  text "AB22" at 220.47,175.67 h28
  text "AE26" at 314.96,301.66 h28
  text "R21" at 0,155.38 h28
  text "P22" at -31.5,186.87 h28
  text "T20" at 31.5,123.88 h28
  text "U21" at 62.99,155.38 h28
  text "V22" at 94.49,186.87 h28
  text "R19" at 0,92.38 h28
  text "P20" at -31.5,123.88 h28
  text "M22" at -94.49,186.87 h28
  text "N21" at -62.99,155.38 h28
  text "T18" at 31.5,60.89 h28
  text "U19" at 62.99,92.38 h28
  text "V20" at 94.49,123.88 h28
  text "W21" at 125.98,155.38 h28
  text "Y22" at 157.48,186.87 h28
  text "U1" at 62.99,-463.34 h28
  text "H16" at -220.47,-2.1 h28
  text "G17" at -251.97,29.39 h28
  text "G15" at -251.97,-33.6 h28
  text "J21" at -188.98,155.38 h28
  text "P16" at -31.5,-2.1 h28
  text "M18" at -94.49,60.89 h28
  text "L19" at -125.98,92.38 h28
  text "K20" at -157.48,123.88 h28
  text "N17" at -62.99,29.39 h28
  text "N15" at -62.99,-33.6 h28
  text "M14" at -94.49,-65.1 h28
  text "F8" at -283.46,-242.87 h28
  text "L13" at -125.98,-96.59 h28
  text "G9" at -251.97,-211.38 h28
  text "K12" at -157.48,-128.09 h28
  text "H10" at -220.47,-191.08 h28
  text "J11" at -188.98,-159.58 h28
  text "G19" at -251.97,92.38 h28
  text "H14" at -220.47,-65.1 h28
  text "J15" at -188.98,-33.6 h28
  text "K16" at -157.48,-2.1 h28
  text "H18" at -220.47,60.89 h28
  text "J17" at -188.98,29.39 h28
  text "F12" at -283.46,-128.09 h28
  text "G13" at -251.97,-96.59 h28
  text "G21" at -251.97,155.38 h28
  text "L17" at -125.98,29.39 h28
  text "K18" at -157.48,60.89 h28
  text "M16" at -94.49,-2.1 h28
  text "J13" at -188.98,-96.59 h28
  text "K14" at -157.48,-65.1 h28
  text "L15" at -125.98,-33.6 h28
  text "H12" at -220.47,-128.09 h28
  text "F10" at -283.46,-191.08 h28
  text "G11" at -251.97,-159.58 h28
  text "J19" at -188.98,92.38 h28
  text "H20" at -220.47,123.88 h28
  text "M28" at -94.49,375.85 h28
  text "T26" at 31.5,312.86 h28
  text "T22" at 31.5,186.87 h28
  text "D3" at -346.46,-400.35 h28
  text "C8" at -377.95,-242.87 h28
  text "A1" at -440.94,-463.34 h28
  text "D14" at -346.46,-65.1 h28
  text "F16" at -283.46,-2.1 h28
  text "D18" at -346.46,60.89 h28
  text "B17" at -409.45,29.39 h28
  text "F18" at -283.46,60.89 h28
  text "B11" at -409.45,-159.58 h28
  text "E20" at -314.96,123.88 h28
  text "G24" at -251.97,249.86 h28
  text "F27" at -283.46,344.35 h28
  text "B25" at -409.45,281.36 h28
  text "C23" at -377.95,218.37 h28
  text "F29" at -283.46,407.34 h28
  text "A29" at -440.94,407.34 h28
Mechanical 16:
  pour cut-out: -472.13,472.45 -472.13,-473.24 473.31,-473.24 473.31,472.45
  region: -472.11,472.5 -472.11,-473.25 473.3,-473.25 473.3,472.5
  lines w1: -472,-473.2 473.3,-473.2 473.3,472.24 -472,472.24 -472,-473.2
3D body: height 150, standoff 0, extent -472.11,-473.25 473.3,472.5

## bh7x2dh_nc6 [mil] "BH7X2DH_NC6"
pads (13):
  rect 60x60 hole 40: 1(0,0)
  round 60 hole 40: 2(0,-100) 3(-100,0) 4(-100,-100) 5(-200,0) 7(-300,0) 8(-300,-100) 9(-400,0) 10(-400,-100) 11(-500,0) 12(-500,-100) 13(-600,0) 14(-600,-100)
Top Overlay:
  lines w10: -800,-513.39 -378.74,-513.39 -378.74,-493.7 -221.26,-493.7 -221.26,-513.39 200,-513.39 200,-139.37 -800,-139.37 -800,-513.39 ; -25,85 25,85 0,35 -25,85
Mechanical 5:
  lines w10: -800,-513.39 -800,-139.37 200,-139.37 200,-513.39 -221.26,-513.39 -221.26,-493.7 -378.74,-493.7 -378.74,-513.39 -800,-513.39 ; -25,85 0,35 25,85 -25,85
  text "J1" at -320.05,40.16 h25
Mechanical 14:
  text "5" at -200,-10 h25
  text "14" at -600,-120 h25
  text "13" at -600,-20 h25
  text "2" at 0,-110 h25
  text "11" at -500,-20 h25
  text "7" at -300,-10 h25
  text "9" at -400,-10 h25
  text "1" at 0,-10 h25
  text "3" at -100,-10 h25
  text "4" at -100,-110 h25
  text "12" at -500,-120 h25
  text "10" at -400,-120 h25
  text "8" at -300,-110 h25
Mechanical 16:
  region: -800,-513.39 200,-513.39 200,40 -800,40
  lines w1: -800,-513.39 200,-513.39 200,40 -800,40 -800,-513.39
3D body: height 150, standoff 0, extent -800,-513.39 200,40

## C0402 [mil] "C0402"
pads (2):
  oval 30x20 smd: 1(-20,0) 2(20,0)
Top Overlay:
  lines w5: -40,-5 -40,5 -30,15 30,15 40,5 40,-5 30,-15 -30,-15 -40,-5
  lines w6: 0,-10 0,10
Mechanical 5:
  lines w5: -37.5,-7.5 -40,-5 -40,5 -37.5,7.5 ; -32.5,-12.5 -30,-15 30,-15 32.5,-12.5 ; -32.5,12.5 -30,15 30,15 32.5,12.5 ; 37.5,-7.5 40,-5 40,5 37.5,7.5
  lines w6: 0,-10 0,10
Mechanical 14:
  text "1" at -10,0 h25
  text "2" at 30,0 h25
Mechanical 16:
  region: 29,-12 36,-5 36,12 -29,12 -37,4 -37,-4 -29,-12
  pour cut-out: -34,-20 33,-20 45,-8 45,8 33,20 -34,20 -45,9 -45,-9
  lines w1: -20,-10 -20,10 20,10 20,-10 -20,-10
  lines w5: -40,-5 -40,5 -30,15 30,15 40,5 40,-5 30,-15 -30,-15 -40,-5
  lines w6: 0,-10 0,10
3D body: height 150, standoff 0, extent -37,-12 36,12